# Altium footprint library EM406-a.PcbLib: 1 footprints
Each footprint in its own frame and in the unit in brackets; x right, y up, seen from the top. Pads: shape width x height; smd on the part's side, far side on the other; paste and mask are expansions set on the pad; w line width, h text height; cw(c..) or ccw(c..) is an arc to the next point about the centre after c.
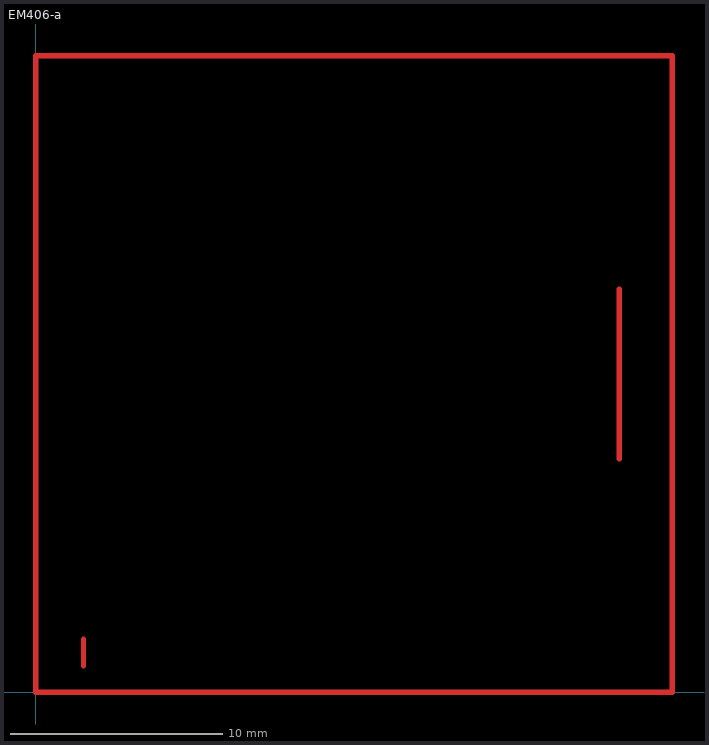
[diagram p0: the footprint, top view; thin cyan lines are the x and y axes]

## EM406-a [mm] "GPS Module EM406-a"
Top Layer:
  lines w0.254: 2.25,1.25 2.25,2.5 ; 27.5,11 27.5,19 ; 0,0 30,0 30,30 0,30 0,0